# Altium schematic symbol library LCD_drivers.SchLib: 1 symbol
Pins are listed as number, name and electrical type; pins without a type are passive.

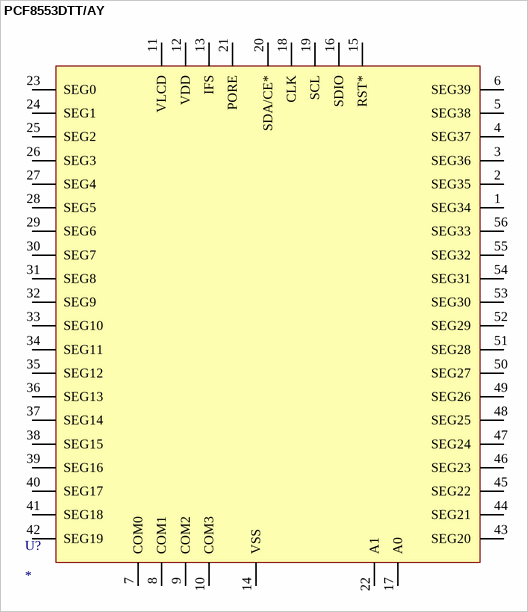
[diagram p0: symbol PCF8553DTT/AY]

## PCF8553DTT/AY
designator U?
40 × 4 LCD SEGMENT DRIVER; Manufacturer: NXP; Manufacturer Part Number: PCF8553DTT/AY; ComponentLink1Description: datasheet; ComponentLink1URL: https://datasheet.lcsc.com/lcsc/2107141507_NXP-Semicon-PCF8553DTT-AJ_C2653705.pdf; Category: *
footprint LCD DRIVER - TSSOP56 (TSSOP, 56-Leads, Body 14,00x6,10mm, Pitch 0,50mm, IPC Medium Density)
pins: 1 SEG34, 2 SEG35, 3 SEG36, 4 SEG37, 5 SEG38, 6 SEG39, 7 COM0, 8 COM1, 9 COM2, 10 COM3, 11 VLCD, 12 VDD, 13 IFS, 14 VSS, 15 RST*, 16 SDIO, 17 A0, 18 CLK, 19 SCL, 20 SDA/CE*, 21 PORE, 22 A1, 23 SEG0, 24 SEG1, 25 SEG2, 26 SEG3, 27 SEG4, 28 SEG5, 29 SEG6, 30 SEG7, 31 SEG8, 32 SEG9, 33 SEG10, 34 SEG11, 35 SEG12, 36 SEG13, 37 SEG14, 38 SEG15, 39 SEG16, 40 SEG17, 41 SEG18, 42 SEG19, 43 SEG20, 44 SEG21, 45 SEG22, 46 SEG23, 47 SEG24, 48 SEG25, 49 SEG26, 50 SEG27, 51 SEG28, 52 SEG29, 53 SEG30, 54 SEG31, 55 SEG32, 56 SEG33